# Altium schematic symbol library SCH - AUDIO - SPEAKER 2 PIN.SCHLIB: 1 symbol
Pins are listed as number, name and electrical type; pins without a type are passive.

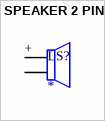
[diagram p0: symbol SPEAKER 2 PIN]

## SPEAKER 2 PIN
designator LS?
pins: +, -